# Altium integrated library TI Data Converters Analog to Digital Converter.IntLib: 2197 symbols (part 158 of 168)
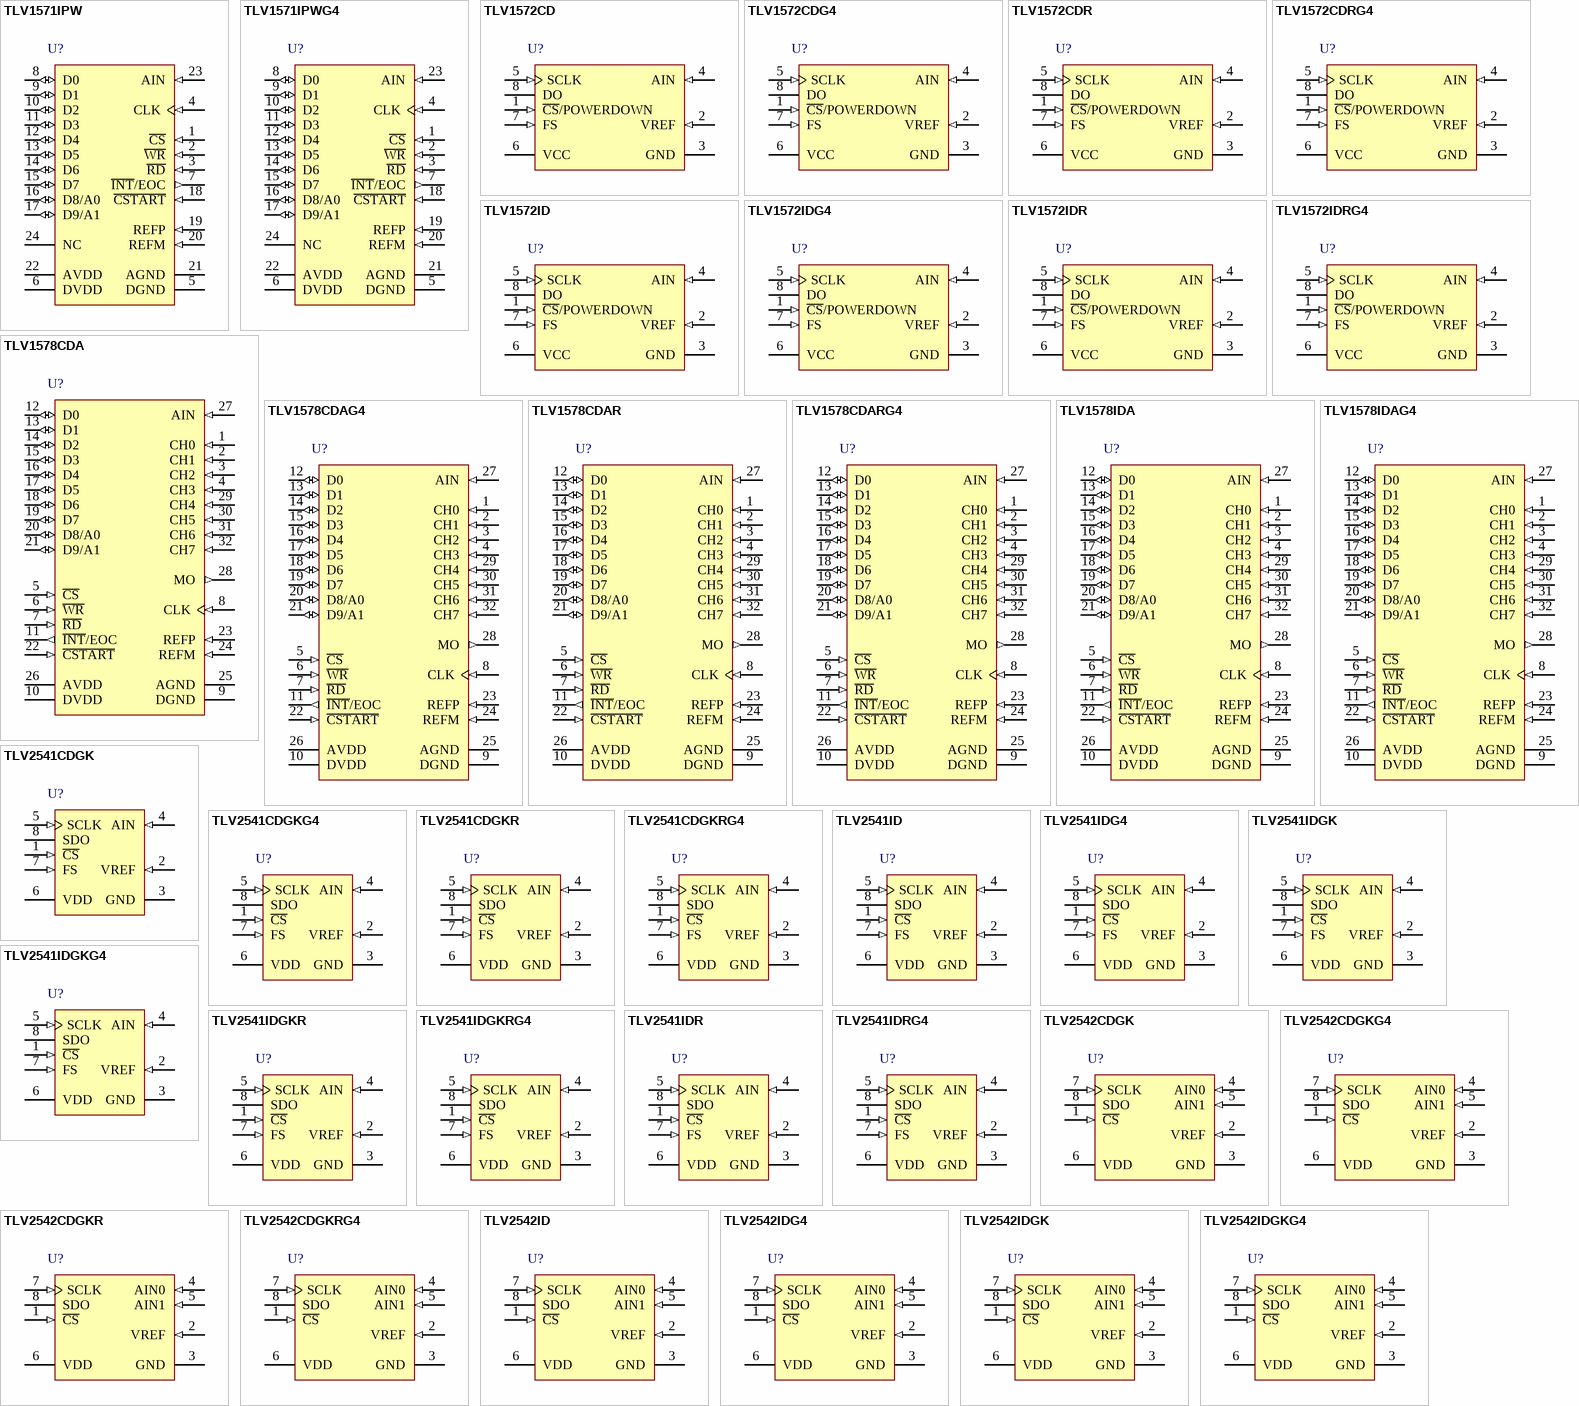
[diagram p283: symbols TLV1571IPW to TLV2542IDGKG4]

## TLV1572IDRG4
designator U?
10-Bit, 1.25 MSPS ADC Single Channel, DSP / (Q)SPI IF, S&H, Very Low Power, Auto Power Down, -40 to 85 degC, 8-pin SOIC (D8), Green (RoHS & no Sb/Br); Manufacturer: Texas Instruments; PartNumber: TLV1572IDRG4; # Input Channels: 1; Analog Voltage AV/DD(Max)(V): 5.5; Analog Voltage AV/DD(Min)(V): 2.7; Architecture: SAR; ENOB(Bits): 9.35; Interface: Serial SPI; Resolution(Bits): 10; Sample Rate (max)(SPS): 1.25M; SFDR(dB): 62; SINAD(dB): 58; SubFamily: Precision ADC (<=10MSPS); DatasheetVersion: SLAS171A; PackageVersion: 4040047-3/M, 06/2011; PackageReference: D8; PackageDescription: 8-Pin Plastic Small Outline, Body 4.9 x 3.9 mm, Pitch 1.27 mm; Supplier 1: Digi-Key; Supplier Part Number 1: 296-25315-2-ND; Supplier 2: Digi-Key; Supplier Part Number 2: 296-25315-1-ND; Supplier 3: Digi-Key; Supplier Part Number 3: 296-25315-6-ND; Supplier 4: Newark; Supplier Part Number 4: 79R8511; Supplier 5: Mouser; Supplier Part Number 5: 595-TLV2548MPWREP; Digital Supply(Max)(V): 5.5; Digital Supply(Min)(V): 2.7; Eco-Plan: Green (RoHS & no Sb/Br); INL(Max)(+/-LSB): 1; Mounting Technology: Surface Mount; Code_JEDEC: MS-012; ComponentLink1Description: Manufacturer URL; ComponentLink1URL: http://www.ti.com/; ComponentLink2Description: Datasheet; ComponentLink2URL: http://www.ti.com/general/docs/lit/getliterature.tsp?genericPartNumber=TLV1572&fileType=pdf; ComponentLink3Description: Package Specification; ComponentLink3URL: http://www.ti.com/litv/pdf/msoi002j
footprint TI-D8_N (SOIC, 8-Leads, Body 4.9x3.9mm, Pitch 1.27mm, IPC Medium Density)
footprint TI-D8_L (SOIC, 8-Leads, Body 4.9x3.9mm, Pitch 1.27mm, IPC High Density)
footprint TI-D8_M (SOIC, 8-Leads, Body 4.9x3.9mm, Pitch 1.27mm, IPC Low Density)
pins: 1 ~{CS}/POWERDOWN (in) "Chip Select. A low on this input enables the TLV1572. A high disables the device and disconnects the power to the TLV1572.", 2 VREF (in) "Reference voltage input. The voltage applied to this pin defines the input span of the TLV1572.", 3 GND (power) "Ground", 4 AIN (in) "Analog input", 5 SCLK (in) "Serial clock input. This clock synchronizes the serial data transfer and is also used for internal data conversion.", 6 VCC (power) "Power supply, recommend connection to analog supply", 7 FS (in) "Frame sync input in DSP mode. The falling edge of the frame sync pulse from DSP indicates the start of a serial data frame shifted out of the TLV1572. The FS input is tied to VCC when interfacing to a micro-controller.", 8 DO (hiz) "Serial data output. A/D conversion results are provided at this output pin."

## TLV1578CDA
designator U?
10-Bit 1.25 MSPS ADC 8-Channel, DSP / SPI, Hardware Configurable, Low Power, 0 to 70 degC, 32-pin SOP (DA32), Green (RoHS & no Sb/Br); Manufacturer: Texas Instruments; PartNumber: TLV1578CDA; # Input Channels: 8; Analog Voltage AV/DD(Max)(V): 5.5; Analog Voltage AV/DD(Min)(V): 2.7; Architecture: SAR; ENOB(Bits): 9.3; INL(Max)(+/-LSB): 1; Interface: Parallel CMOS; Resolution(Bits): 10; Sample Rate (max)(SPS): 1.25M; SFDR(dB): 63; SINAD(dB): 60; SubFamily: Precision ADC (<=10MSPS); DatasheetVersion: SLAS170D; PackageVersion: 4040066/F, 01/2009; PackageReference: DA32; PackageDescription: 32-Pin Plastic Small Outline, Body 11 x 6.1 mm, Pitch 0.65 mm; Supplier 1: Mouser; Supplier Part Number 1: 595-V62/10603-01XE; Digital Supply(Max)(V): 5.5; Digital Supply(Min)(V): 2.7; Eco-Plan: Green (RoHS & no Sb/Br); SNR(dB): 60; Mounting Technology: Surface Mount; Code_JEDEC: MO-225; ComponentLink1Description: Manufacturer URL; ComponentLink1URL: http://www.ti.com/; ComponentLink2Description: Datasheet; ComponentLink2URL: http://www.ti.com/general/docs/lit/getliterature.tsp?genericPartNumber=TLV1578&fileType=pdf; ComponentLink3Description: Package Specification; ComponentLink3URL: http://www.ti.com/lit/ml/mtss002e/mtss002e.pdf
footprint TI-DA32_N (SOP, 32-Leads, Body 11x6.1mm, Pitch 0.65mm, IPC Medium Density)
footprint TI-DA32_L (SOP, 32-Leads, Body 11x6.1mm, Pitch 0.65mm, IPC High Density)
footprint TI-DA32_M (SOP, 32-Leads, Body 11x6.1mm, Pitch 0.65mm, IPC Low Density)
pins: 1 CH0 (in) "Analog input channels", 2 CH1 (in) "Analog input channels", 3 CH2 (in) "Analog input channels", 4 CH3 (in) "Analog input channels", 5 ~{CS} (in) "Chip select. A logic low on C\S\ enables the TLV1571/TLV1578", 6 ~{WR} (in) "Write data. A rising edge on the W\R\ latches in configuration data when C\S\ is low. When using software conversion start, a rising edge on W\R\ also initiates an internal sampling start pulse. When W\R\ is tied to ground, (See Datasheet)", 7 ~{RD} (in) "Read data. A falling edge on R\D\ enables a read operation on the data bus when C\S\ is low.", 8 CLK (in) "External clock input", 9 DGND (power) "Digital ground", 10 DVDD (power) "Digital supply voltage, 2.7 V to 5.5 V", 11 ~{INT}/EOC (out) "End-of-conversion/interrupt", 12 D0 (io) "Bidirectional 3-state data bus", 13 D1 (io) "Bidirectional 3-state data bus", 14 D2 (io) "Bidirectional 3-state data bus", 15 D3 (io) "Bidirectional 3-state data bus", 16 D4 (io) "Bidirectional 3-state data bus", 17 D5 (io) "Bidirectional 3-state data bus", 18 D6 (io) "Bidirectional 3-state data bus", 19 D7 (io) "Bidirectional 3-state data bus", 20 D8/A0 (io) "Bidirectional 3-state data bus. D8/A0 along with D9/A1 is used as address lines to access CR0 and CR1 for initialization", 21 D9/A1 (io) "Bidirectional 3-state data bus. D9/A1 along with D8/A0 is used as address lines to access CR0 and CR1 for initialization.", 22 ~{CSTART} (in) "Hardware sample and conversion start input. The falling edge of C\S\T\A\R\T\ starts sampling and the rising edge of C\S\T\A\R\T\ starts conversion", 23 REFP (in) "Upper reference voltage (nominally AVDD). The maximum input voltage range is determined by the difference between the voltage applied to REFP and REFM.", 24 REFM (in) "Lower reference voltage (nominally ground). REFM must be supplied or REFM pin must be grounded.", 25 AGND (power) "Analog ground", 26 AVDD (power) "Analog supply voltage, 2.7 V to 5.5 V", 27 AIN (in) "ADC analog input (used as single analog input channel for TLV1571)", 28 MO (out) "On-chip MUX analog output", 29 CH4 (in) "Analog input channels", 30 CH5 (in) "Analog input channels", 31 CH6 (in) "Analog input channels", 32 CH7 (in) "Analog input channels"

## TLV1578CDAG4
designator U?
10-Bit 1.25 MSPS ADC 8-Channel, DSP / SPI, Hardware Configurable, Low Power, 0 to 70 degC, 32-pin SOP (DA32), Green (RoHS & no Sb/Br); Manufacturer: Texas Instruments; PartNumber: TLV1578CDAG4; # Input Channels: 8; Analog Voltage AV/DD(Max)(V): 5.5; Analog Voltage AV/DD(Min)(V): 2.7; Architecture: SAR; ENOB(Bits): 9.3; INL(Max)(+/-LSB): 1; Interface: Parallel CMOS; Resolution(Bits): 10; Sample Rate (max)(SPS): 1.25M; SFDR(dB): 63; SINAD(dB): 60; SubFamily: Precision ADC (<=10MSPS); DatasheetVersion: SLAS170D; PackageVersion: 4040066/F, 01/2009; PackageReference: DA32; PackageDescription: 32-Pin Plastic Small Outline, Body 11 x 6.1 mm, Pitch 0.65 mm; Supplier 1: Digi-Key; Supplier Part Number 1: 296-25289-ND; Supplier 2: Newark; Supplier Part Number 2: 55R2427; Supplier 3: Mouser; Supplier Part Number 3: 595-AFE0064IPBK; Digital Supply(Max)(V): 5.5; Digital Supply(Min)(V): 2.7; Eco-Plan: Green (RoHS & no Sb/Br); SNR(dB): 60; Mounting Technology: Surface Mount; Code_JEDEC: MO-225; ComponentLink1Description: Manufacturer URL; ComponentLink1URL: http://www.ti.com/; ComponentLink2Description: Datasheet; ComponentLink2URL: http://www.ti.com/general/docs/lit/getliterature.tsp?genericPartNumber=TLV1578&fileType=pdf; ComponentLink3Description: Package Specification; ComponentLink3URL: http://www.ti.com/lit/ml/mtss002e/mtss002e.pdf
footprint TI-DA32_N (SOP, 32-Leads, Body 11x6.1mm, Pitch 0.65mm, IPC Medium Density)
footprint TI-DA32_L (SOP, 32-Leads, Body 11x6.1mm, Pitch 0.65mm, IPC High Density)
footprint TI-DA32_M (SOP, 32-Leads, Body 11x6.1mm, Pitch 0.65mm, IPC Low Density)
pins: 1 CH0 (in) "Analog input channels", 2 CH1 (in) "Analog input channels", 3 CH2 (in) "Analog input channels", 4 CH3 (in) "Analog input channels", 5 ~{CS} (in) "Chip select. A logic low on C\S\ enables the TLV1571/TLV1578", 6 ~{WR} (in) "Write data. A rising edge on the W\R\ latches in configuration data when C\S\ is low. When using software conversion start, a rising edge on W\R\ also initiates an internal sampling start pulse. When W\R\ is tied to ground, (See Datasheet)", 7 ~{RD} (in) "Read data. A falling edge on R\D\ enables a read operation on the data bus when C\S\ is low.", 8 CLK (in) "External clock input", 9 DGND (power) "Digital ground", 10 DVDD (power) "Digital supply voltage, 2.7 V to 5.5 V", 11 ~{INT}/EOC (out) "End-of-conversion/interrupt", 12 D0 (io) "Bidirectional 3-state data bus", 13 D1 (io) "Bidirectional 3-state data bus", 14 D2 (io) "Bidirectional 3-state data bus", 15 D3 (io) "Bidirectional 3-state data bus", 16 D4 (io) "Bidirectional 3-state data bus", 17 D5 (io) "Bidirectional 3-state data bus", 18 D6 (io) "Bidirectional 3-state data bus", 19 D7 (io) "Bidirectional 3-state data bus", 20 D8/A0 (io) "Bidirectional 3-state data bus. D8/A0 along with D9/A1 is used as address lines to access CR0 and CR1 for initialization", 21 D9/A1 (io) "Bidirectional 3-state data bus. D9/A1 along with D8/A0 is used as address lines to access CR0 and CR1 for initialization.", 22 ~{CSTART} (in) "Hardware sample and conversion start input. The falling edge of C\S\T\A\R\T\ starts sampling and the rising edge of C\S\T\A\R\T\ starts conversion", 23 REFP (in) "Upper reference voltage (nominally AVDD). The maximum input voltage range is determined by the difference between the voltage applied to REFP and REFM.", 24 REFM (in) "Lower reference voltage (nominally ground). REFM must be supplied or REFM pin must be grounded.", 25 AGND (power) "Analog ground", 26 AVDD (power) "Analog supply voltage, 2.7 V to 5.5 V", 27 AIN (in) "ADC analog input (used as single analog input channel for TLV1571)", 28 MO (out) "On-chip MUX analog output", 29 CH4 (in) "Analog input channels", 30 CH5 (in) "Analog input channels", 31 CH6 (in) "Analog input channels", 32 CH7 (in) "Analog input channels"

## TLV1578CDAR
designator U?
10-Bit 1.25 MSPS ADC 8-Channel, DSP / SPI, Hardware Configurable, Low Power, 0 to 70 degC, 32-pin SOP (DA32), Green (RoHS & no Sb/Br); Manufacturer: Texas Instruments; PartNumber: TLV1578CDAR; # Input Channels: 8; Analog Voltage AV/DD(Max)(V): 5.5; Analog Voltage AV/DD(Min)(V): 2.7; Architecture: SAR; ENOB(Bits): 9.3; INL(Max)(+/-LSB): 1; Interface: Parallel CMOS; Resolution(Bits): 10; Sample Rate (max)(SPS): 1.25M; SFDR(dB): 63; SINAD(dB): 60; SubFamily: Precision ADC (<=10MSPS); DatasheetVersion: SLAS170D; PackageVersion: 4040066/F, 01/2009; PackageReference: DA32; PackageDescription: 32-Pin Plastic Small Outline, Body 11 x 6.1 mm, Pitch 0.65 mm; Supplier 1: Digi-Key; Supplier Part Number 1: AFE0064IPBKR-ND; Supplier 2: Newark; Supplier Part Number 2: 55R2428; Supplier 3: Mouser; Supplier Part Number 3: 595-AFE0064IPBKR; Digital Supply(Max)(V): 5.5; Digital Supply(Min)(V): 2.7; Eco-Plan: Green (RoHS & no Sb/Br); SNR(dB): 60; Mounting Technology: Surface Mount; Code_JEDEC: MO-225; ComponentLink1Description: Manufacturer URL; ComponentLink1URL: http://www.ti.com/; ComponentLink2Description: Datasheet; ComponentLink2URL: http://www.ti.com/general/docs/lit/getliterature.tsp?genericPartNumber=TLV1578&fileType=pdf; ComponentLink3Description: Package Specification; ComponentLink3URL: http://www.ti.com/lit/ml/mtss002e/mtss002e.pdf
footprint TI-DA32_N (SOP, 32-Leads, Body 11x6.1mm, Pitch 0.65mm, IPC Medium Density)
footprint TI-DA32_L (SOP, 32-Leads, Body 11x6.1mm, Pitch 0.65mm, IPC High Density)
footprint TI-DA32_M (SOP, 32-Leads, Body 11x6.1mm, Pitch 0.65mm, IPC Low Density)
pins: 1 CH0 (in) "Analog input channels", 2 CH1 (in) "Analog input channels", 3 CH2 (in) "Analog input channels", 4 CH3 (in) "Analog input channels", 5 ~{CS} (in) "Chip select. A logic low on C\S\ enables the TLV1571/TLV1578", 6 ~{WR} (in) "Write data. A rising edge on the W\R\ latches in configuration data when C\S\ is low. When using software conversion start, a rising edge on W\R\ also initiates an internal sampling start pulse. When W\R\ is tied to ground, (See Datasheet)", 7 ~{RD} (in) "Read data. A falling edge on R\D\ enables a read operation on the data bus when C\S\ is low.", 8 CLK (in) "External clock input", 9 DGND (power) "Digital ground", 10 DVDD (power) "Digital supply voltage, 2.7 V to 5.5 V", 11 ~{INT}/EOC (out) "End-of-conversion/interrupt", 12 D0 (io) "Bidirectional 3-state data bus", 13 D1 (io) "Bidirectional 3-state data bus", 14 D2 (io) "Bidirectional 3-state data bus", 15 D3 (io) "Bidirectional 3-state data bus", 16 D4 (io) "Bidirectional 3-state data bus", 17 D5 (io) "Bidirectional 3-state data bus", 18 D6 (io) "Bidirectional 3-state data bus", 19 D7 (io) "Bidirectional 3-state data bus", 20 D8/A0 (io) "Bidirectional 3-state data bus. D8/A0 along with D9/A1 is used as address lines to access CR0 and CR1 for initialization", 21 D9/A1 (io) "Bidirectional 3-state data bus. D9/A1 along with D8/A0 is used as address lines to access CR0 and CR1 for initialization.", 22 ~{CSTART} (in) "Hardware sample and conversion start input. The falling edge of C\S\T\A\R\T\ starts sampling and the rising edge of C\S\T\A\R\T\ starts conversion", 23 REFP (in) "Upper reference voltage (nominally AVDD). The maximum input voltage range is determined by the difference between the voltage applied to REFP and REFM.", 24 REFM (in) "Lower reference voltage (nominally ground). REFM must be supplied or REFM pin must be grounded.", 25 AGND (power) "Analog ground", 26 AVDD (power) "Analog supply voltage, 2.7 V to 5.5 V", 27 AIN (in) "ADC analog input (used as single analog input channel for TLV1571)", 28 MO (out) "On-chip MUX analog output", 29 CH4 (in) "Analog input channels", 30 CH5 (in) "Analog input channels", 31 CH6 (in) "Analog input channels", 32 CH7 (in) "Analog input channels"

## TLV1578CDARG4
designator U?
10-Bit 1.25 MSPS ADC 8-Channel, DSP / SPI, Hardware Configurable, Low Power, 0 to 70 degC, 32-pin SOP (DA32), Green (RoHS & no Sb/Br); Manufacturer: Texas Instruments; PartNumber: TLV1578CDARG4; # Input Channels: 8; Analog Voltage AV/DD(Max)(V): 5.5; Analog Voltage AV/DD(Min)(V): 2.7; Architecture: SAR; ENOB(Bits): 9.3; INL(Max)(+/-LSB): 1; Interface: Parallel CMOS; Resolution(Bits): 10; Sample Rate (max)(SPS): 1.25M; SFDR(dB): 63; SINAD(dB): 60; SubFamily: Precision ADC (<=10MSPS); DatasheetVersion: SLAS170D; PackageVersion: 4040066/F, 01/2009; PackageReference: DA32; PackageDescription: 32-Pin Plastic Small Outline, Body 11 x 6.1 mm, Pitch 0.65 mm; Supplier 1: Digi-Key; Supplier Part Number 1: ADS1015IDGSR-ND; Supplier 2: Newark; Supplier Part Number 2: 55R2409; Supplier 3: Mouser; Supplier Part Number 3: 595-ADS1015IDGSR; Digital Supply(Max)(V): 5.5; Digital Supply(Min)(V): 2.7; Eco-Plan: Green (RoHS & no Sb/Br); SNR(dB): 60; Mounting Technology: Surface Mount; Code_JEDEC: MO-225; ComponentLink1Description: Manufacturer URL; ComponentLink1URL: http://www.ti.com/; ComponentLink2Description: Datasheet; ComponentLink2URL: http://www.ti.com/general/docs/lit/getliterature.tsp?genericPartNumber=TLV1578&fileType=pdf; ComponentLink3Description: Package Specification; ComponentLink3URL: http://www.ti.com/lit/ml/mtss002e/mtss002e.pdf
footprint TI-DA32_N (SOP, 32-Leads, Body 11x6.1mm, Pitch 0.65mm, IPC Medium Density)
footprint TI-DA32_L (SOP, 32-Leads, Body 11x6.1mm, Pitch 0.65mm, IPC High Density)
footprint TI-DA32_M (SOP, 32-Leads, Body 11x6.1mm, Pitch 0.65mm, IPC Low Density)
pins: 1 CH0 (in) "Analog input channels", 2 CH1 (in) "Analog input channels", 3 CH2 (in) "Analog input channels", 4 CH3 (in) "Analog input channels", 5 ~{CS} (in) "Chip select. A logic low on C\S\ enables the TLV1571/TLV1578", 6 ~{WR} (in) "Write data. A rising edge on the W\R\ latches in configuration data when C\S\ is low. When using software conversion start, a rising edge on W\R\ also initiates an internal sampling start pulse. When W\R\ is tied to ground, (See Datasheet)", 7 ~{RD} (in) "Read data. A falling edge on R\D\ enables a read operation on the data bus when C\S\ is low.", 8 CLK (in) "External clock input", 9 DGND (power) "Digital ground", 10 DVDD (power) "Digital supply voltage, 2.7 V to 5.5 V", 11 ~{INT}/EOC (out) "End-of-conversion/interrupt", 12 D0 (io) "Bidirectional 3-state data bus", 13 D1 (io) "Bidirectional 3-state data bus", 14 D2 (io) "Bidirectional 3-state data bus", 15 D3 (io) "Bidirectional 3-state data bus", 16 D4 (io) "Bidirectional 3-state data bus", 17 D5 (io) "Bidirectional 3-state data bus", 18 D6 (io) "Bidirectional 3-state data bus", 19 D7 (io) "Bidirectional 3-state data bus", 20 D8/A0 (io) "Bidirectional 3-state data bus. D8/A0 along with D9/A1 is used as address lines to access CR0 and CR1 for initialization", 21 D9/A1 (io) "Bidirectional 3-state data bus. D9/A1 along with D8/A0 is used as address lines to access CR0 and CR1 for initialization.", 22 ~{CSTART} (in) "Hardware sample and conversion start input. The falling edge of C\S\T\A\R\T\ starts sampling and the rising edge of C\S\T\A\R\T\ starts conversion", 23 REFP (in) "Upper reference voltage (nominally AVDD). The maximum input voltage range is determined by the difference between the voltage applied to REFP and REFM.", 24 REFM (in) "Lower reference voltage (nominally ground). REFM must be supplied or REFM pin must be grounded.", 25 AGND (power) "Analog ground", 26 AVDD (power) "Analog supply voltage, 2.7 V to 5.5 V", 27 AIN (in) "ADC analog input (used as single analog input channel for TLV1571)", 28 MO (out) "On-chip MUX analog output", 29 CH4 (in) "Analog input channels", 30 CH5 (in) "Analog input channels", 31 CH6 (in) "Analog input channels", 32 CH7 (in) "Analog input channels"

## TLV1578IDA
designator U?
10-Bit 1.25 MSPS ADC 8-Channel, DSP / SPI, Hardware Configurable, Low Power, -40 to 85 degC, 32-pin SOP (DA32), Green (RoHS & no Sb/Br); Manufacturer: Texas Instruments; PartNumber: TLV1578IDA; # Input Channels: 8; Analog Voltage AV/DD(Max)(V): 5.5; Analog Voltage AV/DD(Min)(V): 2.7; Architecture: SAR; ENOB(Bits): 9.3; INL(Max)(+/-LSB): 1; Interface: Parallel CMOS; Resolution(Bits): 10; Sample Rate (max)(SPS): 1.25M; SFDR(dB): 63; SINAD(dB): 60; SubFamily: Precision ADC (<=10MSPS); DatasheetVersion: SLAS170D; PackageVersion: 4040066/F, 01/2009; PackageReference: DA32; PackageDescription: 32-Pin Plastic Small Outline, Body 11 x 6.1 mm, Pitch 0.65 mm; Supplier 1: Digi-Key; Supplier Part Number 1: 296-25227-2-ND; Supplier 2: Digi-Key; Supplier Part Number 2: 296-25227-1-ND; Supplier 3: Digi-Key; Supplier Part Number 3: 296-25227-6-ND; Supplier 4: Farnell; Supplier Part Number 4: 1778211; Supplier 5: Newark; Supplier Part Number 5: 35R0211; Supplier 6: Mouser; Supplier Part Number 6: 595-ADS1015IDGST; Digital Supply(Max)(V): 5.5; Digital Supply(Min)(V): 2.7; Eco-Plan: Green (RoHS & no Sb/Br); SNR(dB): 60; Mounting Technology: Surface Mount; Code_JEDEC: MO-225; ComponentLink1Description: Manufacturer URL; ComponentLink1URL: http://www.ti.com/; ComponentLink2Description: Datasheet; ComponentLink2URL: http://www.ti.com/general/docs/lit/getliterature.tsp?genericPartNumber=TLV1578&fileType=pdf; ComponentLink3Description: Package Specification; ComponentLink3URL: http://www.ti.com/lit/ml/mtss002e/mtss002e.pdf
footprint TI-DA32_N (SOP, 32-Leads, Body 11x6.1mm, Pitch 0.65mm, IPC Medium Density)
footprint TI-DA32_L (SOP, 32-Leads, Body 11x6.1mm, Pitch 0.65mm, IPC High Density)
footprint TI-DA32_M (SOP, 32-Leads, Body 11x6.1mm, Pitch 0.65mm, IPC Low Density)
pins: 1 CH0 (in) "Analog input channels", 2 CH1 (in) "Analog input channels", 3 CH2 (in) "Analog input channels", 4 CH3 (in) "Analog input channels", 5 ~{CS} (in) "Chip select. A logic low on C\S\ enables the TLV1571/TLV1578", 6 ~{WR} (in) "Write data. A rising edge on the W\R\ latches in configuration data when C\S\ is low. When using software conversion start, a rising edge on W\R\ also initiates an internal sampling start pulse. When W\R\ is tied to ground, (See Datasheet)", 7 ~{RD} (in) "Read data. A falling edge on R\D\ enables a read operation on the data bus when C\S\ is low.", 8 CLK (in) "External clock input", 9 DGND (power) "Digital ground", 10 DVDD (power) "Digital supply voltage, 2.7 V to 5.5 V", 11 ~{INT}/EOC (out) "End-of-conversion/interrupt", 12 D0 (io) "Bidirectional 3-state data bus", 13 D1 (io) "Bidirectional 3-state data bus", 14 D2 (io) "Bidirectional 3-state data bus", 15 D3 (io) "Bidirectional 3-state data bus", 16 D4 (io) "Bidirectional 3-state data bus", 17 D5 (io) "Bidirectional 3-state data bus", 18 D6 (io) "Bidirectional 3-state data bus", 19 D7 (io) "Bidirectional 3-state data bus", 20 D8/A0 (io) "Bidirectional 3-state data bus. D8/A0 along with D9/A1 is used as address lines to access CR0 and CR1 for initialization", 21 D9/A1 (io) "Bidirectional 3-state data bus. D9/A1 along with D8/A0 is used as address lines to access CR0 and CR1 for initialization.", 22 ~{CSTART} (in) "Hardware sample and conversion start input. The falling edge of C\S\T\A\R\T\ starts sampling and the rising edge of C\S\T\A\R\T\ starts conversion", 23 REFP (in) "Upper reference voltage (nominally AVDD). The maximum input voltage range is determined by the difference between the voltage applied to REFP and REFM.", 24 REFM (in) "Lower reference voltage (nominally ground). REFM must be supplied or REFM pin must be grounded.", 25 AGND (power) "Analog ground", 26 AVDD (power) "Analog supply voltage, 2.7 V to 5.5 V", 27 AIN (in) "ADC analog input (used as single analog input channel for TLV1571)", 28 MO (out) "On-chip MUX analog output", 29 CH4 (in) "Analog input channels", 30 CH5 (in) "Analog input channels", 31 CH6 (in) "Analog input channels", 32 CH7 (in) "Analog input channels"

## TLV1578IDAG4
designator U?
10-Bit 1.25 MSPS ADC 8-Channel, DSP / SPI, Hardware Configurable, Low Power, -40 to 85 degC, 32-pin SOP (DA32), Green (RoHS & no Sb/Br); Manufacturer: Texas Instruments; PartNumber: TLV1578IDAG4; # Input Channels: 8; Analog Voltage AV/DD(Max)(V): 5.5; Analog Voltage AV/DD(Min)(V): 2.7; Architecture: SAR; ENOB(Bits): 9.3; INL(Max)(+/-LSB): 1; Interface: Parallel CMOS; Resolution(Bits): 10; Sample Rate (max)(SPS): 1.25M; SFDR(dB): 63; SINAD(dB): 60; SubFamily: Precision ADC (<=10MSPS); DatasheetVersion: SLAS170D; PackageVersion: 4040066/F, 01/2009; PackageReference: DA32; PackageDescription: 32-Pin Plastic Small Outline, Body 11 x 6.1 mm, Pitch 0.65 mm; Supplier 1: Digi-Key; Supplier Part Number 1: ADS1015IRUGR-ND; Supplier 2: Newark; Supplier Part Number 2: 50R7475; Supplier 3: Mouser; Supplier Part Number 3: 595-ADS1015IRUGR; Digital Supply(Max)(V): 5.5; Digital Supply(Min)(V): 2.7; Eco-Plan: Green (RoHS & no Sb/Br); SNR(dB): 60; Mounting Technology: Surface Mount; Code_JEDEC: MO-225; ComponentLink1Description: Manufacturer URL; ComponentLink1URL: http://www.ti.com/; ComponentLink2Description: Datasheet; ComponentLink2URL: http://www.ti.com/general/docs/lit/getliterature.tsp?genericPartNumber=TLV1578&fileType=pdf; ComponentLink3Description: Package Specification; ComponentLink3URL: http://www.ti.com/lit/ml/mtss002e/mtss002e.pdf
footprint TI-DA32_N (SOP, 32-Leads, Body 11x6.1mm, Pitch 0.65mm, IPC Medium Density)
footprint TI-DA32_L (SOP, 32-Leads, Body 11x6.1mm, Pitch 0.65mm, IPC High Density)
footprint TI-DA32_M (SOP, 32-Leads, Body 11x6.1mm, Pitch 0.65mm, IPC Low Density)
pins: 1 CH0 (in) "Analog input channels", 2 CH1 (in) "Analog input channels", 3 CH2 (in) "Analog input channels", 4 CH3 (in) "Analog input channels", 5 ~{CS} (in) "Chip select. A logic low on C\S\ enables the TLV1571/TLV1578", 6 ~{WR} (in) "Write data. A rising edge on the W\R\ latches in configuration data when C\S\ is low. When using software conversion start, a rising edge on W\R\ also initiates an internal sampling start pulse. When W\R\ is tied to ground, (See Datasheet)", 7 ~{RD} (in) "Read data. A falling edge on R\D\ enables a read operation on the data bus when C\S\ is low.", 8 CLK (in) "External clock input", 9 DGND (power) "Digital ground", 10 DVDD (power) "Digital supply voltage, 2.7 V to 5.5 V", 11 ~{INT}/EOC (out) "End-of-conversion/interrupt", 12 D0 (io) "Bidirectional 3-state data bus", 13 D1 (io) "Bidirectional 3-state data bus", 14 D2 (io) "Bidirectional 3-state data bus", 15 D3 (io) "Bidirectional 3-state data bus", 16 D4 (io) "Bidirectional 3-state data bus", 17 D5 (io) "Bidirectional 3-state data bus", 18 D6 (io) "Bidirectional 3-state data bus", 19 D7 (io) "Bidirectional 3-state data bus", 20 D8/A0 (io) "Bidirectional 3-state data bus. D8/A0 along with D9/A1 is used as address lines to access CR0 and CR1 for initialization", 21 D9/A1 (io) "Bidirectional 3-state data bus. D9/A1 along with D8/A0 is used as address lines to access CR0 and CR1 for initialization.", 22 ~{CSTART} (in) "Hardware sample and conversion start input. The falling edge of C\S\T\A\R\T\ starts sampling and the rising edge of C\S\T\A\R\T\ starts conversion", 23 REFP (in) "Upper reference voltage (nominally AVDD). The maximum input voltage range is determined by the difference between the voltage applied to REFP and REFM.", 24 REFM (in) "Lower reference voltage (nominally ground). REFM must be supplied or REFM pin must be grounded.", 25 AGND (power) "Analog ground", 26 AVDD (power) "Analog supply voltage, 2.7 V to 5.5 V", 27 AIN (in) "ADC analog input (used as single analog input channel for TLV1571)", 28 MO (out) "On-chip MUX analog output", 29 CH4 (in) "Analog input channels", 30 CH5 (in) "Analog input channels", 31 CH6 (in) "Analog input channels", 32 CH7 (in) "Analog input channels"

## TLV2541CDGK
designator U?
12-Bit, 200 kSPS ADC, Serial Out, TMS320 Compatible (up to 10 MHz), Single Channel, 0 to 70 degC, 8-pin SOP (DGK8), Green (RoHS & no Sb/Br); Manufacturer: Texas Instruments; PartNumber: TLV2541CDGK; # Input Channels: 1; Analog Voltage AV/DD(Max)(V): 5.5; Analog Voltage AV/DD(Min)(V): 2.7; Architecture: SAR; ENOB(Bits): 11.8; Interface: Serial SPI; Resolution(Bits): 12; Sample Rate (max)(SPS): 200k; SFDR(dB): 84; SINAD(dB): 72; SubFamily: Precision ADC (<=10MSPS); DatasheetVersion: SLAS245E; PackageVersion: 4073329/E, 05/2006; PackageReference: DGK8; PackageDescription: 8-Pin Thin Small Outline, Body 3 x 3 mm, Pitch 0.65 mm; Supplier 1: Digi-Key; Supplier Part Number 1: 296-25172-2-ND; Supplier 2: Digi-Key; Supplier Part Number 2: 296-25172-1-ND; Supplier 3: Digi-Key; Supplier Part Number 3: 296-25172-6-ND; Supplier 4: Farnell; Supplier Part Number 4: 1771739; Supplier 5: Newark; Supplier Part Number 5: 50R9141; Supplier 6: Newark; Supplier Part Number 6: 33R2088; Supplier 7: Mouser; Supplier Part Number 7: 595-ADS1015IRUGT; Digital Supply(Max)(V): 5.5; Digital Supply(Min)(V): 2.7; Eco-Plan: Green (RoHS & no Sb/Br); INL(Max)(+/-LSB): 1; Mounting Technology: Surface Mount; Code_JEDEC: MO-187; ComponentLink1Description: Manufacturer URL; ComponentLink1URL: http://www.ti.com/; ComponentLink2Description: Datasheet; ComponentLink2URL: http://www.ti.com/general/docs/lit/getliterature.tsp?genericPartNumber=TLV2541&fileType=pdf; ComponentLink3Description: Package Specification; ComponentLink3URL: http://www.ti.com/litv/pdf/mpds028d
footprint TI-DGK8_N (SOP, 8-Leads, Body 3x3mm, Pitch 0.65mm, IPC Medium Density)
footprint TI-DGK8_L (SOP, 8-Leads, Body 3x3mm, Pitch 0.65mm, IPC High Density)
footprint TI-DGK8_M (SOP, 8-Leads, Body 3x3mm, Pitch 0.65mm, IPC Low Density)
pins: 1 ~{CS} (in) "Chip select. A high-to-low transition on the C\S\ input removes SDO from 3-state within a maximum setup time. C\S\ can be used as the FS pin when a dedicated DSP serial port is used.", 2 VREF (in) "External reference input", 3 GND (power) "Ground return for the internal circuitry. Unless otherwise noted, all voltage measurements are with respect to GND.", 4 AIN (in) "Analog input channel", 5 SCLK (in) "Output serial clock. This terminal receives the serial SCLK from the host processor.", 6 VDD (power) "Positive supply voltage", 7 FS (in) "DSP frame sync input. Indication of the start of a serial data frame. Tie this terminal to VDD if not used.", 8 SDO (hiz) "The 3-state serial output for the A/D conversion result. SDO is kept in the high-impedance state until C\S\ falling edge or FS rising edge, whichever occurs first. The output format is MSB first. When FS is not used (FS = 1 (See Datasheet)"

## TLV2541CDGKG4
designator U?
12-Bit, 200 kSPS ADC, Serial Out, TMS320 Compatible (up to 10 MHz), Single Channel, 0 to 70 degC, 8-pin SOP (DGK8), Green (RoHS & no Sb/Br); Manufacturer: Texas Instruments; PartNumber: TLV2541CDGKG4; # Input Channels: 1; Analog Voltage AV/DD(Max)(V): 5.5; Analog Voltage AV/DD(Min)(V): 2.7; Architecture: SAR; ENOB(Bits): 11.8; Interface: Serial SPI; Resolution(Bits): 12; Sample Rate (max)(SPS): 200k; SFDR(dB): 84; SINAD(dB): 72; SubFamily: Precision ADC (<=10MSPS); DatasheetVersion: SLAS245E; PackageVersion: 4073329/E, 05/2006; PackageReference: DGK8; PackageDescription: 8-Pin Thin Small Outline, Body 3 x 3 mm, Pitch 0.65 mm; Supplier 1: Digi-Key; Supplier Part Number 1: ADS1014IDGSR-ND; Supplier 2: Mouser; Supplier Part Number 2: 595-ADS1014IDGSR; Digital Supply(Max)(V): 5.5; Digital Supply(Min)(V): 2.7; Eco-Plan: Green (RoHS & no Sb/Br); INL(Max)(+/-LSB): 1; Mounting Technology: Surface Mount; Code_JEDEC: MO-187; ComponentLink1Description: Manufacturer URL; ComponentLink1URL: http://www.ti.com/; ComponentLink2Description: Datasheet; ComponentLink2URL: http://www.ti.com/general/docs/lit/getliterature.tsp?genericPartNumber=TLV2541&fileType=pdf; ComponentLink3Description: Package Specification; ComponentLink3URL: http://www.ti.com/litv/pdf/mpds028d
footprint TI-DGK8_N (SOP, 8-Leads, Body 3x3mm, Pitch 0.65mm, IPC Medium Density)
footprint TI-DGK8_L (SOP, 8-Leads, Body 3x3mm, Pitch 0.65mm, IPC High Density)
footprint TI-DGK8_M (SOP, 8-Leads, Body 3x3mm, Pitch 0.65mm, IPC Low Density)
pins: 1 ~{CS} (in) "Chip select. A high-to-low transition on the C\S\ input removes SDO from 3-state within a maximum setup time. C\S\ can be used as the FS pin when a dedicated DSP serial port is used.", 2 VREF (in) "External reference input", 3 GND (power) "Ground return for the internal circuitry. Unless otherwise noted, all voltage measurements are with respect to GND.", 4 AIN (in) "Analog input channel", 5 SCLK (in) "Output serial clock. This terminal receives the serial SCLK from the host processor.", 6 VDD (power) "Positive supply voltage", 7 FS (in) "DSP frame sync input. Indication of the start of a serial data frame. Tie this terminal to VDD if not used.", 8 SDO (hiz) "The 3-state serial output for the A/D conversion result. SDO is kept in the high-impedance state until C\S\ falling edge or FS rising edge, whichever occurs first. The output format is MSB first. When FS is not used (FS = 1 (See Datasheet)"

## TLV2541CDGKR
designator U?
12-Bit, 200 kSPS ADC, Serial Out, TMS320 Compatible (up to 10 MHz), Single Channel, 0 to 70 degC, 8-pin SOP (DGK8), Green (RoHS & no Sb/Br); Manufacturer: Texas Instruments; PartNumber: TLV2541CDGKR; # Input Channels: 1; Analog Voltage AV/DD(Max)(V): 5.5; Analog Voltage AV/DD(Min)(V): 2.7; Architecture: SAR; ENOB(Bits): 11.8; Interface: Serial SPI; Resolution(Bits): 12; Sample Rate (max)(SPS): 200k; SFDR(dB): 84; SINAD(dB): 72; SubFamily: Precision ADC (<=10MSPS); DatasheetVersion: SLAS245E; PackageVersion: 4073329/E, 05/2006; PackageReference: DGK8; PackageDescription: 8-Pin Thin Small Outline, Body 3 x 3 mm, Pitch 0.65 mm; Supplier 1: Digi-Key; Supplier Part Number 1: 296-25226-2-ND; Supplier 2: Digi-Key; Supplier Part Number 2: 296-25226-1-ND; Supplier 3: Digi-Key; Supplier Part Number 3: 296-25226-6-ND; Supplier 4: Farnell; Supplier Part Number 4: 1778210; Supplier 5: Mouser; Supplier Part Number 5: 595-ADS1014IDGST; Digital Supply(Max)(V): 5.5; Digital Supply(Min)(V): 2.7; Eco-Plan: Green (RoHS & no Sb/Br); INL(Max)(+/-LSB): 1; Mounting Technology: Surface Mount; Code_JEDEC: MO-187; ComponentLink1Description: Manufacturer URL; ComponentLink1URL: http://www.ti.com/; ComponentLink2Description: Datasheet; ComponentLink2URL: http://www.ti.com/general/docs/lit/getliterature.tsp?genericPartNumber=TLV2541&fileType=pdf; ComponentLink3Description: Package Specification; ComponentLink3URL: http://www.ti.com/litv/pdf/mpds028d
footprint TI-DGK8_N (SOP, 8-Leads, Body 3x3mm, Pitch 0.65mm, IPC Medium Density)
footprint TI-DGK8_L (SOP, 8-Leads, Body 3x3mm, Pitch 0.65mm, IPC High Density)
footprint TI-DGK8_M (SOP, 8-Leads, Body 3x3mm, Pitch 0.65mm, IPC Low Density)
pins: 1 ~{CS} (in) "Chip select. A high-to-low transition on the C\S\ input removes SDO from 3-state within a maximum setup time. C\S\ can be used as the FS pin when a dedicated DSP serial port is used.", 2 VREF (in) "External reference input", 3 GND (power) "Ground return for the internal circuitry. Unless otherwise noted, all voltage measurements are with respect to GND.", 4 AIN (in) "Analog input channel", 5 SCLK (in) "Output serial clock. This terminal receives the serial SCLK from the host processor.", 6 VDD (power) "Positive supply voltage", 7 FS (in) "DSP frame sync input. Indication of the start of a serial data frame. Tie this terminal to VDD if not used.", 8 SDO (hiz) "The 3-state serial output for the A/D conversion result. SDO is kept in the high-impedance state until C\S\ falling edge or FS rising edge, whichever occurs first. The output format is MSB first. When FS is not used (FS = 1 (See Datasheet)"

## TLV2541CDGKRG4
designator U?
12-Bit, 200 kSPS ADC, Serial Out, TMS320 Compatible (up to 10 MHz), Single Channel, 0 to 70 degC, 8-pin SOP (DGK8), Green (RoHS & no Sb/Br); Manufacturer: Texas Instruments; PartNumber: TLV2541CDGKRG4; # Input Channels: 1; Analog Voltage AV/DD(Max)(V): 5.5; Analog Voltage AV/DD(Min)(V): 2.7; Architecture: SAR; ENOB(Bits): 11.8; Interface: Serial SPI; Resolution(Bits): 12; Sample Rate (max)(SPS): 200k; SFDR(dB): 84; SINAD(dB): 72; SubFamily: Precision ADC (<=10MSPS); DatasheetVersion: SLAS245E; PackageVersion: 4073329/E, 05/2006; PackageReference: DGK8; PackageDescription: 8-Pin Thin Small Outline, Body 3 x 3 mm, Pitch 0.65 mm; Supplier 1: Digi-Key; Supplier Part Number 1: ADS1014IRUGR-ND; Supplier 2: Mouser; Supplier Part Number 2: 595-ADS1014IRUGR; Digital Supply(Max)(V): 5.5; Digital Supply(Min)(V): 2.7; Eco-Plan: Green (RoHS & no Sb/Br); INL(Max)(+/-LSB): 1; Mounting Technology: Surface Mount; Code_JEDEC: MO-187; ComponentLink1Description: Manufacturer URL; ComponentLink1URL: http://www.ti.com/; ComponentLink2Description: Datasheet; ComponentLink2URL: http://www.ti.com/general/docs/lit/getliterature.tsp?genericPartNumber=TLV2541&fileType=pdf; ComponentLink3Description: Package Specification; ComponentLink3URL: http://www.ti.com/litv/pdf/mpds028d
footprint TI-DGK8_N (SOP, 8-Leads, Body 3x3mm, Pitch 0.65mm, IPC Medium Density)
footprint TI-DGK8_L (SOP, 8-Leads, Body 3x3mm, Pitch 0.65mm, IPC High Density)
footprint TI-DGK8_M (SOP, 8-Leads, Body 3x3mm, Pitch 0.65mm, IPC Low Density)
pins: 1 ~{CS} (in) "Chip select. A high-to-low transition on the C\S\ input removes SDO from 3-state within a maximum setup time. C\S\ can be used as the FS pin when a dedicated DSP serial port is used.", 2 VREF (in) "External reference input", 3 GND (power) "Ground return for the internal circuitry. Unless otherwise noted, all voltage measurements are with respect to GND.", 4 AIN (in) "Analog input channel", 5 SCLK (in) "Output serial clock. This terminal receives the serial SCLK from the host processor.", 6 VDD (power) "Positive supply voltage", 7 FS (in) "DSP frame sync input. Indication of the start of a serial data frame. Tie this terminal to VDD if not used.", 8 SDO (hiz) "The 3-state serial output for the A/D conversion result. SDO is kept in the high-impedance state until C\S\ falling edge or FS rising edge, whichever occurs first. The output format is MSB first. When FS is not used (FS = 1 (See Datasheet)"

## TLV2541ID
designator U?
12-Bit, 200 kSPS ADC, Serial Out, TMS320 Compatible (up to 10 MHz), Single Channel, -40 to 85 degC, 8-pin SOIC (D8), Green (RoHS & no Sb/Br); Manufacturer: Texas Instruments; PartNumber: TLV2541ID; # Input Channels: 1; Analog Voltage AV/DD(Max)(V): 5.5; Analog Voltage AV/DD(Min)(V): 2.7; Architecture: SAR; ENOB(Bits): 11.8; Interface: Serial SPI; Resolution(Bits): 12; Sample Rate (max)(SPS): 200K; SFDR(dB): 84; SINAD(dB): 72; SubFamily: Precision ADC (<=10MSPS); DatasheetVersion: SLAS245E; PackageVersion: 4040047-3/M, 06/2011; PackageReference: D8; PackageDescription: 8-Pin Plastic Small Outline, Body 4.9 x 3.9 mm, Pitch 1.27 mm; Supplier 1: Digi-Key; Supplier Part Number 1: 296-25171-2-ND; Supplier 2: Digi-Key; Supplier Part Number 2: 296-25171-1-ND; Supplier 3: Digi-Key; Supplier Part Number 3: 296-25171-6-ND; Supplier 4: Farnell; Supplier Part Number 4: 1771738; Supplier 5: Mouser; Supplier Part Number 5: 595-ADS1014IRUGT; Digital Supply(Max)(V): 5.5; Digital Supply(Min)(V): 2.7; Eco-Plan: Green (RoHS & no Sb/Br); INL(Max)(+/-LSB): 1; Mounting Technology: Surface Mount; Code_JEDEC: MS-012; ComponentLink1Description: Manufacturer URL; ComponentLink1URL: http://www.ti.com/; ComponentLink2Description: Datasheet; ComponentLink2URL: http://www.ti.com/general/docs/lit/getliterature.tsp?genericPartNumber=TLV2541&fileType=pdf; ComponentLink3Description: Package Specification; ComponentLink3URL: http://www.ti.com/litv/pdf/msoi002j
footprint TI-D8_N (SOIC, 8-Leads, Body 4.9x3.9mm, Pitch 1.27mm, IPC Medium Density)
footprint TI-D8_L (SOIC, 8-Leads, Body 4.9x3.9mm, Pitch 1.27mm, IPC High Density)
footprint TI-D8_M (SOIC, 8-Leads, Body 4.9x3.9mm, Pitch 1.27mm, IPC Low Density)
pins: 1 ~{CS} (in) "Chip select. A high-to-low transition on the C\S\ input removes SDO from 3-state within a maximum setup time. C\S\ can be used as the FS pin when a dedicated DSP serial port is used.", 2 VREF (in) "External reference input", 3 GND (power) "Ground return for the internal circuitry. Unless otherwise noted, all voltage measurements are with respect to GND.", 4 AIN (in) "Analog input channel", 5 SCLK (in) "Output serial clock. This terminal receives the serial SCLK from the host processor.", 6 VDD (power) "Positive supply voltage", 7 FS (in) "DSP frame sync input. Indication of the start of a serial data frame. Tie this terminal to VDD if not used.", 8 SDO (hiz) "The 3-state serial output for the A/D conversion result. SDO is kept in the high-impedance state until C\S\ falling edge or FS rising edge, whichever occurs first. The output format is MSB first. When FS is not used (FS = 1 (See Datasheet)"

## TLV2541IDG4
designator U?
12-Bit, 200 kSPS ADC, Serial Out, TMS320 Compatible (up to 10 MHz), Single Channel, -40 to 85 degC, 8-pin SOIC (D8), Green (RoHS & no Sb/Br); Manufacturer: Texas Instruments; PartNumber: TLV2541IDG4; # Input Channels: 1; Analog Voltage AV/DD(Max)(V): 5.5; Analog Voltage AV/DD(Min)(V): 2.7; Architecture: SAR; ENOB(Bits): 11.8; Interface: Serial SPI; Resolution(Bits): 12; Sample Rate (max)(SPS): 200K; SFDR(dB): 84; SINAD(dB): 72; SubFamily: Precision ADC (<=10MSPS); DatasheetVersion: SLAS245E; PackageVersion: 4040047-3/M, 06/2011; PackageReference: D8; PackageDescription: 8-Pin Plastic Small Outline, Body 4.9 x 3.9 mm, Pitch 1.27 mm; Supplier 1: Digi-Key; Supplier Part Number 1: ADS1013IDGSR-ND; Supplier 2: Newark; Supplier Part Number 2: 55R2407; Supplier 3: Mouser; Supplier Part Number 3: 595-ADS1013IDGSR; Digital Supply(Max)(V): 5.5; Digital Supply(Min)(V): 2.7; Eco-Plan: Green (RoHS & no Sb/Br); INL(Max)(+/-LSB): 1; Mounting Technology: Surface Mount; Code_JEDEC: MS-012; ComponentLink1Description: Manufacturer URL; ComponentLink1URL: http://www.ti.com/; ComponentLink2Description: Datasheet; ComponentLink2URL: http://www.ti.com/general/docs/lit/getliterature.tsp?genericPartNumber=TLV2541&fileType=pdf; ComponentLink3Description: Package Specification; ComponentLink3URL: http://www.ti.com/litv/pdf/msoi002j
footprint TI-D8_N (SOIC, 8-Leads, Body 4.9x3.9mm, Pitch 1.27mm, IPC Medium Density)
footprint TI-D8_L (SOIC, 8-Leads, Body 4.9x3.9mm, Pitch 1.27mm, IPC High Density)
footprint TI-D8_M (SOIC, 8-Leads, Body 4.9x3.9mm, Pitch 1.27mm, IPC Low Density)
pins: 1 ~{CS} (in) "Chip select. A high-to-low transition on the C\S\ input removes SDO from 3-state within a maximum setup time. C\S\ can be used as the FS pin when a dedicated DSP serial port is used.", 2 VREF (in) "External reference input", 3 GND (power) "Ground return for the internal circuitry. Unless otherwise noted, all voltage measurements are with respect to GND.", 4 AIN (in) "Analog input channel", 5 SCLK (in) "Output serial clock. This terminal receives the serial SCLK from the host processor.", 6 VDD (power) "Positive supply voltage", 7 FS (in) "DSP frame sync input. Indication of the start of a serial data frame. Tie this terminal to VDD if not used.", 8 SDO (hiz) "The 3-state serial output for the A/D conversion result. SDO is kept in the high-impedance state until C\S\ falling edge or FS rising edge, whichever occurs first. The output format is MSB first. When FS is not used (FS = 1 (See Datasheet)"

## TLV2541IDGK
designator U?
12-Bit, 200 kSPS ADC, Serial Out, TMS320 Compatible (up to 10 MHz), Single Channel, -40 to 85 degC, 8-pin SOP (DGK8), Green (RoHS & no Sb/Br); Manufacturer: Texas Instruments; PartNumber: TLV2541IDGK; # Input Channels: 1; Analog Voltage AV/DD(Max)(V): 5.5; Analog Voltage AV/DD(Min)(V): 2.7; Architecture: SAR; ENOB(Bits): 11.8; Interface: Serial SPI; Resolution(Bits): 12; Sample Rate (max)(SPS): 200k; SFDR(dB): 84; SINAD(dB): 72; SubFamily: Precision ADC (<=10MSPS); DatasheetVersion: SLAS245E; PackageVersion: 4073329/E, 05/2006; PackageReference: DGK8; PackageDescription: 8-Pin Thin Small Outline, Body 3 x 3 mm, Pitch 0.65 mm; Supplier 1: Digi-Key; Supplier Part Number 1: 296-25225-2-ND; Supplier 2: Digi-Key; Supplier Part Number 2: 296-25225-1-ND; Supplier 3: Digi-Key; Supplier Part Number 3: 296-25225-6-ND; Supplier 4: Farnell; Supplier Part Number 4: 1778209; Supplier 5: Newark; Supplier Part Number 5: 35R0209; Supplier 6: Mouser; Supplier Part Number 6: 595-ADS1013IDGST; Digital Supply(Max)(V): 5.5; Digital Supply(Min)(V): 2.7; Eco-Plan: Green (RoHS & no Sb/Br); INL(Max)(+/-LSB): 1; Mounting Technology: Surface Mount; Code_JEDEC: MO-187; ComponentLink1Description: Manufacturer URL; ComponentLink1URL: http://www.ti.com/; ComponentLink2Description: Datasheet; ComponentLink2URL: http://www.ti.com/general/docs/lit/getliterature.tsp?genericPartNumber=TLV2541&fileType=pdf; ComponentLink3Description: Package Specification; ComponentLink3URL: http://www.ti.com/litv/pdf/mpds028d
footprint TI-DGK8_N (SOP, 8-Leads, Body 3x3mm, Pitch 0.65mm, IPC Medium Density)
footprint TI-DGK8_L (SOP, 8-Leads, Body 3x3mm, Pitch 0.65mm, IPC High Density)
footprint TI-DGK8_M (SOP, 8-Leads, Body 3x3mm, Pitch 0.65mm, IPC Low Density)
pins: 1 ~{CS} (in) "Chip select. A high-to-low transition on the C\S\ input removes SDO from 3-state within a maximum setup time. C\S\ can be used as the FS pin when a dedicated DSP serial port is used.", 2 VREF (in) "External reference input", 3 GND (power) "Ground return for the internal circuitry. Unless otherwise noted, all voltage measurements are with respect to GND.", 4 AIN (in) "Analog input channel", 5 SCLK (in) "Output serial clock. This terminal receives the serial SCLK from the host processor.", 6 VDD (power) "Positive supply voltage", 7 FS (in) "DSP frame sync input. Indication of the start of a serial data frame. Tie this terminal to VDD if not used.", 8 SDO (hiz) "The 3-state serial output for the A/D conversion result. SDO is kept in the high-impedance state until C\S\ falling edge or FS rising edge, whichever occurs first. The output format is MSB first. When FS is not used (FS = 1 (See Datasheet)"

## TLV2541IDGKG4
designator U?
12-Bit, 200 kSPS ADC, Serial Out, TMS320 Compatible (up to 10 MHz), Single Channel, -40 to 85 degC, 8-pin SOP (DGK8), Green (RoHS & no Sb/Br); Manufacturer: Texas Instruments; PartNumber: TLV2541IDGKG4; # Input Channels: 1; Analog Voltage AV/DD(Max)(V): 5.5; Analog Voltage AV/DD(Min)(V): 2.7; Architecture: SAR; ENOB(Bits): 11.8; Interface: Serial SPI; Resolution(Bits): 12; Sample Rate (max)(SPS): 200k; SFDR(dB): 84; SINAD(dB): 72; SubFamily: Precision ADC (<=10MSPS); DatasheetVersion: SLAS245E; PackageVersion: 4073329/E, 05/2006; PackageReference: DGK8; PackageDescription: 8-Pin Thin Small Outline, Body 3 x 3 mm, Pitch 0.65 mm; Supplier 1: Digi-Key; Supplier Part Number 1: ADS1013IRUGR-ND; Supplier 2: Mouser; Supplier Part Number 2: 595-ADS1013IRUGR; Digital Supply(Max)(V): 5.5; Digital Supply(Min)(V): 2.7; Eco-Plan: Green (RoHS & no Sb/Br); INL(Max)(+/-LSB): 1; Mounting Technology: Surface Mount; Code_JEDEC: MO-187; ComponentLink1Description: Manufacturer URL; ComponentLink1URL: http://www.ti.com/; ComponentLink2Description: Datasheet; ComponentLink2URL: http://www.ti.com/general/docs/lit/getliterature.tsp?genericPartNumber=TLV2541&fileType=pdf; ComponentLink3Description: Package Specification; ComponentLink3URL: http://www.ti.com/litv/pdf/mpds028d
footprint TI-DGK8_N (SOP, 8-Leads, Body 3x3mm, Pitch 0.65mm, IPC Medium Density)
footprint TI-DGK8_L (SOP, 8-Leads, Body 3x3mm, Pitch 0.65mm, IPC High Density)
footprint TI-DGK8_M (SOP, 8-Leads, Body 3x3mm, Pitch 0.65mm, IPC Low Density)
pins: 1 ~{CS} (in) "Chip select. A high-to-low transition on the C\S\ input removes SDO from 3-state within a maximum setup time. C\S\ can be used as the FS pin when a dedicated DSP serial port is used.", 2 VREF (in) "External reference input", 3 GND (power) "Ground return for the internal circuitry. Unless otherwise noted, all voltage measurements are with respect to GND.", 4 AIN (in) "Analog input channel", 5 SCLK (in) "Output serial clock. This terminal receives the serial SCLK from the host processor.", 6 VDD (power) "Positive supply voltage", 7 FS (in) "DSP frame sync input. Indication of the start of a serial data frame. Tie this terminal to VDD if not used.", 8 SDO (hiz) "The 3-state serial output for the A/D conversion result. SDO is kept in the high-impedance state until C\S\ falling edge or FS rising edge, whichever occurs first. The output format is MSB first. When FS is not used (FS = 1 (See Datasheet)"

## TLV2541IDGKR
designator U?
12-Bit, 200 kSPS ADC, Serial Out, TMS320 Compatible (up to 10 MHz), Single Channel, -40 to 85 degC, 8-pin SOP (DGK8), Green (RoHS & no Sb/Br); Manufacturer: Texas Instruments; PartNumber: TLV2541IDGKR; # Input Channels: 1; Analog Voltage AV/DD(Max)(V): 5.5; Analog Voltage AV/DD(Min)(V): 2.7; Architecture: SAR; ENOB(Bits): 11.8; Interface: Serial SPI; Resolution(Bits): 12; Sample Rate (max)(SPS): 200k; SFDR(dB): 84; SINAD(dB): 72; SubFamily: Precision ADC (<=10MSPS); DatasheetVersion: SLAS245E; PackageVersion: 4073329/E, 05/2006; PackageReference: DGK8; PackageDescription: 8-Pin Thin Small Outline, Body 3 x 3 mm, Pitch 0.65 mm; Supplier 1: Digi-Key; Supplier Part Number 1: 296-25170-2-ND; Supplier 2: Digi-Key; Supplier Part Number 2: 296-25170-1-ND; Supplier 3: Digi-Key; Supplier Part Number 3: 296-25170-6-ND; Supplier 4: Farnell; Supplier Part Number 4: 1771737; Supplier 5: Newark; Supplier Part Number 5: 33R2086; Supplier 6: Mouser; Supplier Part Number 6: 595-ADS1013IRUGT; Digital Supply(Max)(V): 5.5; Digital Supply(Min)(V): 2.7; Eco-Plan: Green (RoHS & no Sb/Br); INL(Max)(+/-LSB): 1; Mounting Technology: Surface Mount; Code_JEDEC: MO-187; ComponentLink1Description: Manufacturer URL; ComponentLink1URL: http://www.ti.com/; ComponentLink2Description: Datasheet; ComponentLink2URL: http://www.ti.com/general/docs/lit/getliterature.tsp?genericPartNumber=TLV2541&fileType=pdf; ComponentLink3Description: Package Specification; ComponentLink3URL: http://www.ti.com/litv/pdf/mpds028d
footprint TI-DGK8_N (SOP, 8-Leads, Body 3x3mm, Pitch 0.65mm, IPC Medium Density)
footprint TI-DGK8_L (SOP, 8-Leads, Body 3x3mm, Pitch 0.65mm, IPC High Density)
footprint TI-DGK8_M (SOP, 8-Leads, Body 3x3mm, Pitch 0.65mm, IPC Low Density)
pins: 1 ~{CS} (in) "Chip select. A high-to-low transition on the C\S\ input removes SDO from 3-state within a maximum setup time. C\S\ can be used as the FS pin when a dedicated DSP serial port is used.", 2 VREF (in) "External reference input", 3 GND (power) "Ground return for the internal circuitry. Unless otherwise noted, all voltage measurements are with respect to GND.", 4 AIN (in) "Analog input channel", 5 SCLK (in) "Output serial clock. This terminal receives the serial SCLK from the host processor.", 6 VDD (power) "Positive supply voltage", 7 FS (in) "DSP frame sync input. Indication of the start of a serial data frame. Tie this terminal to VDD if not used.", 8 SDO (hiz) "The 3-state serial output for the A/D conversion result. SDO is kept in the high-impedance state until C\S\ falling edge or FS rising edge, whichever occurs first. The output format is MSB first. When FS is not used (FS = 1 (See Datasheet)"